# EAGLE library part AZBDC12A8 (library Robot_Arm)
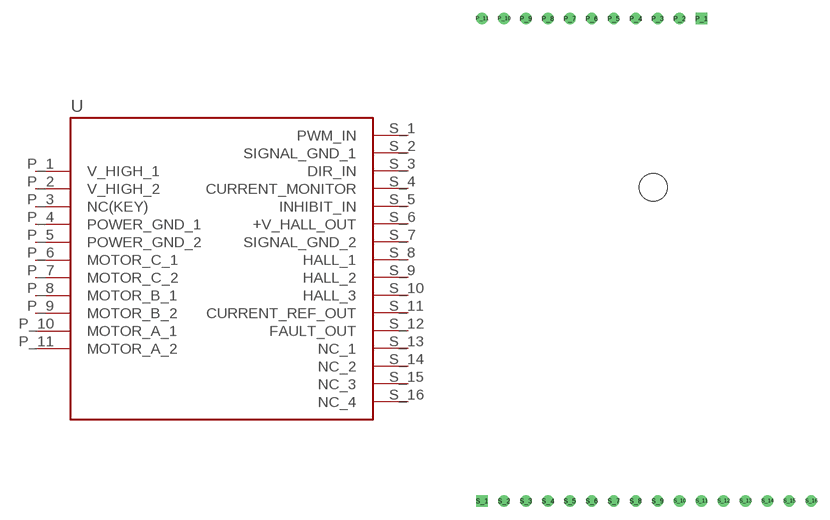
[diagram p0: symbol with the pads of AZBDC12A8; footprint AZBDC12A8]

Designator prefix -

## AZBDC12A8THROUGH_HOLE  [AZBDC12A8]
P_1  V_HIGH_1
P_2  V_HIGH_2
P_3  NC(KEY)
P_4  POWER_GND_1
P_5  POWER_GND_2
P_6  MOTOR_C_1
P_7  MOTOR_C_2
P_8  MOTOR_B_1
P_9  MOTOR_B_2
P_10  MOTOR_A_1
P_11  MOTOR_A_2
S_1  PWM_IN
S_2  SIGNAL_GND_1
S_3  DIR_IN
S_4  CURRENT_MONITOR
S_5  INHIBIT_IN
S_6  +V_HALL_OUT
S_7  SIGNAL_GND_2
S_8  HALL_1
S_9  HALL_2
S_10  HALL_3
S_11  CURRENT_REF_OUT
S_12  FAULT_OUT
S_13  NC_1
S_14  NC_2
S_15  NC_3
S_16  NC_4

## Footprint AZBDC12A8 (pad centres in mm)
drill 0.8 square: P_1 31.496,59.69; S_1 6.096,3.81
drill 0.8: P_2 28.956,59.69; P_3 26.416,59.69; P_4 23.876,59.69; P_5 21.336,59.69; P_6 18.796,59.69; P_7 16.256,59.69; P_8 13.716,59.69; P_9 11.176,59.69; P_10 8.636,59.69; P_11 6.096,59.69; S_2 8.636,3.81; S_3 11.176,3.81; S_4 13.716,3.81; S_5 16.256,3.81; S_6 18.796,3.81; S_7 21.336,3.81; S_8 23.876,3.81; S_9 26.416,3.81; S_10 28.956,3.81; S_11 31.496,3.81; S_12 34.036,3.81; S_13 36.576,3.81; S_14 39.116,3.81; S_15 41.656,3.81; S_16 44.196,3.81
hole 3.2 at 25.908,40.132